# Altium schematic symbol library SamacSys.SchLib: 16 symbols
Pins are listed as number, name and electrical type; pins without a type are passive.

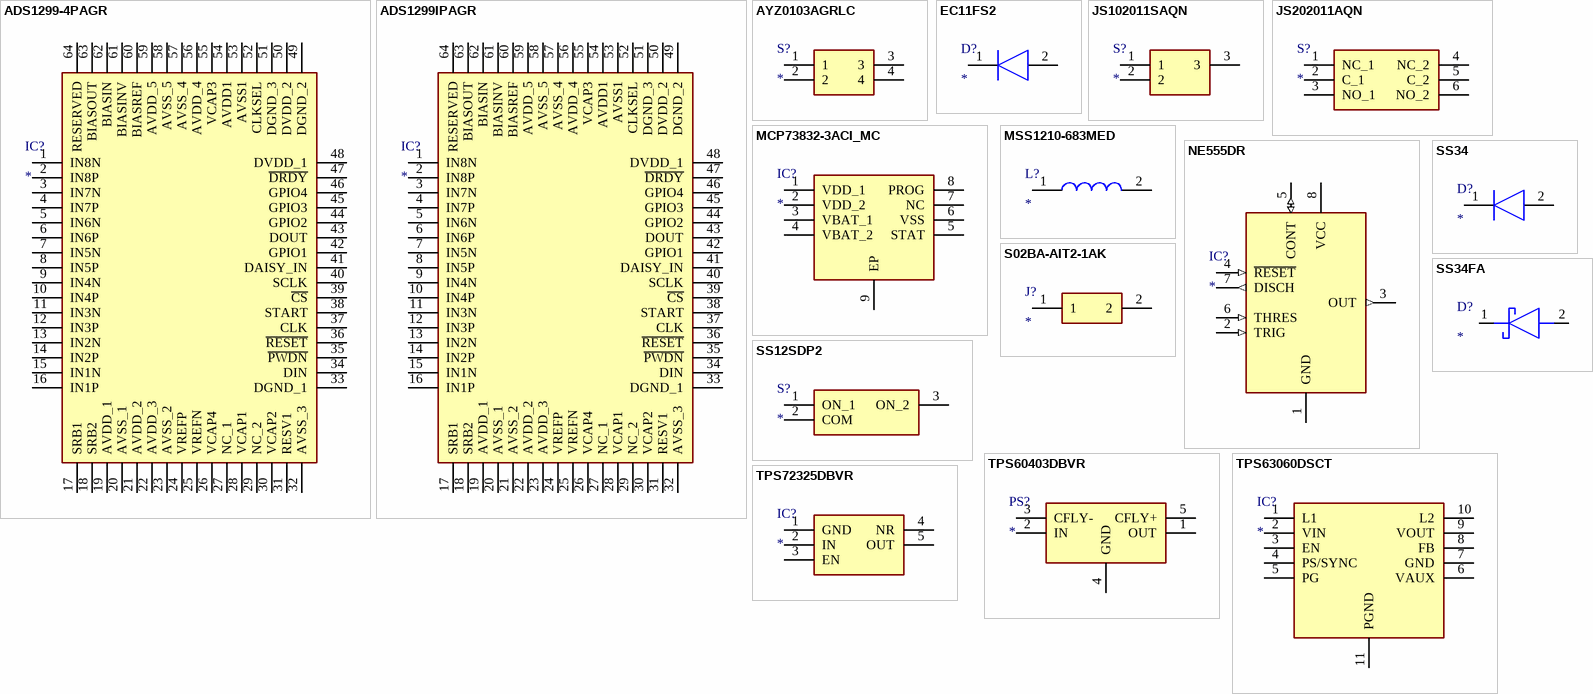
[diagram p0: symbols ADS1299-4PAGR to TPS72325DBVR]

## ADS1299-4PAGR
designator IC?
Integrated Circuit; Manufacturer_Name: Texas Instruments; Manufacturer_Part_Number: ADS1299-4PAGR; Datasheet Link: http://www.ti.com/lit/ds/symlink/ads1299-4.pdf; Height: 1.2mm; Mouser Part Number: 595-ADS1299-4PAGR; Mouser Price/Stock: https://www.mouser.com/Search/Refine.aspx?Keyword=595-ADS1299-4PAGR
footprint QFP50P1200X1200X120-64N
pins: 1 IN8N, 2 IN8P, 3 IN7N, 4 IN7P, 5 IN6N, 6 IN6P, 7 IN5N, 8 IN5P, 9 IN4N, 10 IN4P, 11 IN3N, 12 IN3P, 13 IN2N, 14 IN2P, 15 IN1N, 16 IN1P, 17 SRB1, 18 SRB2, 19 AVDD_1, 20 AVSS_1, 21 AVDD_2, 22 AVDD_3, 23 AVSS_2, 24 VREFP, 25 VREFN, 26 VCAP4, 27 NC_1, 28 VCAP1, 29 NC_2, 30 VCAP2, 31 RESV1, 32 AVSS_3, 33 DGND_1, 34 DIN, 35 ~{PWDN}, 36 ~{RESET}, 37 CLK, 38 START, 39 ~{CS}, 40 SCLK, 41 DAISY_IN, 42 GPIO1, 43 DOUT, 44 GPIO2, 45 GPIO3, 46 GPIO4, 47 ~{DRDY}, 48 DVDD_1, 49 DGND_2, 50 DVDD_2, 51 DGND_3, 52 CLKSEL, 53 AVSS1, 54 AVDD1, 55 VCAP3, 56 AVDD_4, 57 AVSS_4, 58 AVSS_5, 59 AVDD_5, 60 BIASREF, 61 BIASINV, 62 BIASIN, 63 BIASOUT, 64 RESERVED

## ADS1299IPAGR
designator IC?
Integrated Circuit; Manufacturer_Name: Texas Instruments; Manufacturer_Part_Number: ADS1299IPAGR; Datasheet Link: http://www.ti.com/lit/gpn/ads1299; Height: 1.2mm; Mouser Part Number: 595-ADS1299IPAGR; Mouser Price/Stock: https://www.mouser.com/Search/Refine.aspx?Keyword=595-ADS1299IPAGR
footprint QFP50P1200X1200X120-64N
pins: 1 IN8N, 2 IN8P, 3 IN7N, 4 IN7P, 5 IN6N, 6 IN6P, 7 IN5N, 8 IN5P, 9 IN4N, 10 IN4P, 11 IN3N, 12 IN3P, 13 IN2N, 14 IN2P, 15 IN1N, 16 IN1P, 17 SRB1, 18 SRB2, 19 AVDD_1, 20 AVSS_1, 21 AVSS_2, 22 AVDD_2, 23 AVDD_3, 24 VREFP, 25 VREFN, 26 VCAP4, 27 NC_1, 28 VCAP1, 29 NC_2, 30 VCAP2, 31 RESV1, 32 AVSS_3, 33 DGND_1, 34 DIN, 35 ~{PWDN}, 36 ~{RESET}, 37 CLK, 38 START, 39 ~{CS}, 40 SCLK, 41 DAISY_IN, 42 GPIO1, 43 DOUT, 44 GPIO2, 45 GPIO3, 46 GPIO4, 47 ~{DRDY}, 48 DVDD_1, 49 DGND_2, 50 DVDD_2, 51 DGND_3, 52 CLKSEL, 53 AVSS1, 54 AVDD1, 55 VCAP3, 56 AVDD_4, 57 AVSS_4, 58 AVSS_5, 59 AVDD_5, 60 BIASREF, 61 BIASINV, 62 BIASIN, 63 BIASOUT, 64 RESERVED

## AYZ0103AGRLC
designator S?
Switch; Manufacturer_Name: C & K COMPONENTS; Manufacturer_Part_Number: AYZ0103AGRLC; Datasheet Link: https://www.ckswitches.com/media/1431/ayz.pdf; Mouser Part Number: 611-AYZ0103AGRLC; Mouser Price/Stock: https://www.mouser.com/Search/Refine.aspx?Keyword=611-AYZ0103AGRLC; RS Part Number: 7931500P; RS Price/Stock: http://uk.rs-online.com/web/p/products/7931500P
footprint AYZ0103AGRLC
pins: 1, 2, 3, 4

## EC11FS2
designator D?
Diode; Manufacturer_Name: KYOCERA; Manufacturer_Part_Number: EC11FS2; Datasheet Link: https://www.mouser.jp/datasheet/2/909/EC11FS2-file-1588983.pdf; Height: 2.2mm; Mouser Part Number: 346-EC11FS2
footprint DIOM5025X220N
pins: 1 K, 2 A

## JS102011SAQN
designator S?
Switch; Manufacturer_Name: C & K COMPONENTS; Manufacturer_Part_Number: JS102011SAQN; Allied_Number: 71173976; Datasheet Link: http://www.ckswitches.com/media/1422/js.pdf; Mouser Part Number: 611-JS102011SAQN; Mouser Price/Stock: https://www.mouser.com/Search/Refine.aspx?Keyword=611-JS102011SAQN; RS Part Number: 1543603; RS Price/Stock: http://uk.rs-online.com/web/p/products/1543603; Allied Price/Stock: https://www.alliedelec.com/c-k-js102011saqn/71173976/
footprint JS102011SAQN
pins: 1, 2, 3

## JS202011AQN
designator S?
Switch; Manufacturer_Name: C & K COMPONENTS; Manufacturer_Part_Number: JS202011AQN; Datasheet Link: https://www.ckswitches.com/media/1422/js.pdf; Height: 3mm; Mouser Part Number: 611-JS202011AQN; Mouser Price/Stock: https://www.mouser.com/Search/Refine.aspx?Keyword=611-JS202011AQN; RS Part Number: 1544699; RS Price/Stock: http://uk.rs-online.com/web/p/products/1544699
footprint JS202011AQN
pins: 1 NC_1, 2 C_1, 3 NO_1, 4 NC_2, 5 C_2, 6 NO_2

## MCP73832-3ACI_MC
designator IC?
Integrated Circuit; Manufacturer_Name: Microchip; Manufacturer_Part_Number: MCP73832-3ACI/MC; Datasheet Link: https://componentsearchengine.com/Datasheets/1/MCP73832-3ACI_MC.pdf; Height: 1mm; Mouser Part Number: 579-MCP73832-3ACI/MC; Mouser Price/Stock: https://www.mouser.com/Search/Refine.aspx?Keyword=579-MCP73832-3ACI%2FMC
footprint SON50P300X200X100-9N-D
pins: 1 VDD_1, 2 VDD_2, 3 VBAT_1, 4 VBAT_2, 5 STAT, 6 VSS, 7 NC, 8 PROG, 9 EP

## MSS1210-683MED
designator L?
Inductor; Manufacturer_Name: COILCRAFT; Manufacturer_Part_Number: MSS1210-683MED; Datasheet Link: https://componentsearchengine.com/Datasheets/1/MSS1210-683MED.pdf; Height: 10.2mm; Mouser Part Number: 994-MSS1210-683MED; Mouser Price/Stock: https://www.mouser.com/Search/Refine.aspx?Keyword=994-MSS1210-683MED
footprint INDPM120120X1020N
pins: 1, 2

## NE555DR
designator IC?
Integrated Circuit; Manufacturer_Name: Texas Instruments; Manufacturer_Part_Number: NE555DR; Datasheet Link: http://www.ti.com/lit/ds/symlink/ne555.pdf; Height: 1.75mm; Mouser Part Number: 595-NE555DR; Mouser Price/Stock: https://www.mouser.com/Search/Refine.aspx?Keyword=595-NE555DR; RS Part Number: 1218414; RS Price/Stock: http://uk.rs-online.com/web/p/products/1218414
footprint SOIC127P600X175-8N
pins: 1 GND (power), 2 TRIG (in), 3 OUT (out), 4 ~{RESET} (in), 5 CONT (io), 6 THRES (in), 7 DISCH (out), 8 VCC (power)

## S02BA-AIT2-1AK
designator J?
Connector; Manufacturer_Name: JST (JAPAN SOLDERLESS TERMINALS); Manufacturer_Part_Number: S02BA-AIT2-1AK; Description: Automotive Connectors 2P BLK Side Entry Brs tin plated pin; Datasheet Link: http://www.jst-mfg.com/product/pdf/eng/eAIT-II.pdf; Mouser Part Number: 306-S02BA-AIT2-1AK; Mouser Price/Stock: https://www.mouser.com/Search/Refine.aspx?Keyword=306-S02BA-AIT2-1AK
footprint S02BA-AIT2-1AK
pins: 1, 2

## SS12SDP2
designator S?
Switch; Manufacturer_Name: NKK Switches; Manufacturer_Part_Number: SS12SDP2; Datasheet Link: https://componentsearchengine.com/Datasheets/1/SS12SDP2.pdf; Height: 4mm; Mouser Part Number: 633-SS12SDP2; Mouser Price/Stock: https://www.mouser.com/Search/Refine.aspx?Keyword=633-SS12SDP2
footprint SS12SDP2
pins: 1 ON_1, 2 COM, 3 ON_2

## SS34
designator D?
Diode; Manufacturer_Name: Fairchild Semiconductor; Manufacturer_Part_Number: SS34; Datasheet Link: https://componentsearchengine.com/Datasheets/1/SS34.pdf; Height: 2.65mm; Mouser Part Number: 512-SS34; Mouser Price/Stock: https://www.mouser.com/Search/Refine.aspx?Keyword=512-SS34
footprint DIOM8059X265N
pins: 1 K, 2 A

## SS34FA
designator D?
Schottky Diode; Manufacturer_Name: ON Semiconductor; Manufacturer_Part_Number: SS34FA; Datasheet Link: https://componentsearchengine.com/Datasheets/1/SS34FA.pdf; Height: 1.43mm; Mouser Part Number: 512-SS34FA; Mouser Price/Stock: https://www.mouser.com/Search/Refine.aspx?Keyword=512-SS34FA
footprint SODFL3618X143N
pins: 1 K, 2 A

## TPS60403DBVR
designator PS?
Power Supply; Manufacturer_Name: Texas Instruments; Manufacturer_Part_Number: TPS60403DBVR; Datasheet Link: http://www.ti.com/lit/gpn/tps60403; Height: 1.45mm; Mouser Part Number: 595-TPS60403DBVR; Mouser Price/Stock: https://www.mouser.com/Search/Refine.aspx?Keyword=595-TPS60403DBVR
footprint SOT95P280X145-5N
pins: 1 OUT, 2 IN, 3 CFLY-, 4 GND, 5 CFLY+

## TPS63060DSCT
designator IC?
Integrated Circuit; Manufacturer_Name: Texas Instruments; Manufacturer_Part_Number: TPS63060DSCT; Datasheet Link: http://www.ti.com/lit/ds/symlink/tps63060.pdf; Height: 0.8mm; Mouser Part Number: 595-TPS63060DSCT; Mouser Price/Stock: https://www.mouser.com/Search/Refine.aspx?Keyword=595-TPS63060DSCT; RS Part Number: 8123801P; RS Price/Stock: http://uk.rs-online.com/web/p/products/8123801P
footprint SON50P300X300X80-11N-D
pins: 1 L1, 2 VIN, 3 EN, 4 PS/SYNC, 5 PG, 6 VAUX, 7 GND, 8 FB, 9 VOUT, 10 L2, 11 PGND

## TPS72325DBVR
designator IC?
Integrated Circuit; Manufacturer_Name: Texas Instruments; Manufacturer_Part_Number: TPS72325DBVR; Datasheet Link: http://www.mouser.com/ds/2/405/tps723-558413.pdf; Height: 1.45mm; Mouser Part Number: 595-TPS72325DBVR; Mouser Price/Stock: https://www.mouser.com/Search/Refine.aspx?Keyword=595-TPS72325DBVR
footprint SOT95P280X145-5N
pins: 1 GND, 2 IN, 3 EN, 4 NR, 5 OUT